# EAGLE library part MAX4427 (library h8-ic)
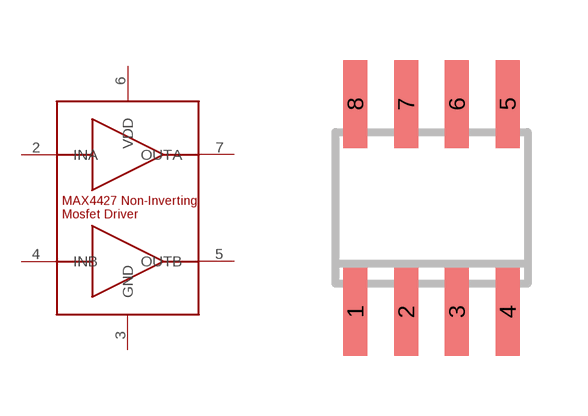
[diagram p1: symbol with the pads of SO-08; footprint SO-08]

Designator prefix -

## MAX4427  [SO-08]
2  INA
3  GND
4  INB
5  OUTB
6  VDD
7  OUTA

## Footprint SO-08 (pad centres in mm)
Small Outline Integrated Circuit
smd 0.6 x 2.2: 1 -1.905,-2.6; 2 -0.635,-2.6; 3 0.635,-2.6; 4 1.905,-2.6; 5 1.905,2.6; 6 0.635,2.6; 7 -0.635,2.6; 8 -1.905,2.6